# Altium schematic symbol library 10k_ohm_0201.SchLib: 1 symbol
Pins are listed as number, name and electrical type; pins without a type are passive.

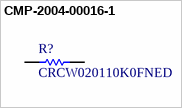
[diagram p0: symbol CMP-2004-00016-1]

## CMP-2004-00016-1
designator R?, comment CRCW020110K0FNED
Manufacturer: Vishay Dale; Part Number: CRCW020110K0FNED
footprint RESC0603X28X15ML05T05 (Chip Resistor, 2-Leads, Body 0.60x0.30mm, IPC Low Density)
footprint RESC0603X28X15NL05T05 (Chip Resistor, 2-Leads, Body 0.60x0.30mm, IPC Medium Density)
footprint RESC0603X28X15LL05T05 (Chip Resistor, 2-Leads, Body 0.60x0.30mm, IPC High Density)
pins: 1, 2
1 alternate drawing of the same symbol